# EAGLE library part NTAG5_LINK_NTP53X2 (library LITAF_TEMPTRESS)
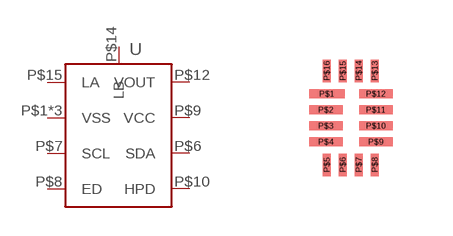
[diagram p0: symbol with the pads of SOT1161-2; footprint SOT1161-2]

Designator prefix -

## NTAG5_LINK_NTP53X2  [SOT1161-2]
P$1  VSS
P$2  VSS
P$6  SDA
P$7  SCL
P$8  ED
P$9  VCC
P$10  HPD
P$11  VSS
P$12  VOUT
P$14  LB
P$15  LA

## Footprint SOT1161-2 (pad centres in mm)
smd 0.9 x 0.22: P$1 -0.6,0.6
smd 0.85 x 0.22: P$2 -0.625,0.2; P$3 -0.625,-0.2; P$4 -0.625,-0.6; P$9 0.625,-0.6; P$10 0.625,-0.2; P$11 0.625,0.2; P$12 0.625,0.6
smd 0.22 x 0.55: P$5 -0.6,-1.175; P$6 -0.2,-1.175; P$7 0.2,-1.175; P$8 0.6,-1.175; P$13 0.6,1.175; P$14 0.2,1.175; P$15 -0.2,1.175; P$16 -0.6,1.175